# Altium schematic symbol library STUSB4500QTR.Schlib: 1 symbol
Pins are listed as number, name and electrical type; pins without a type are passive.

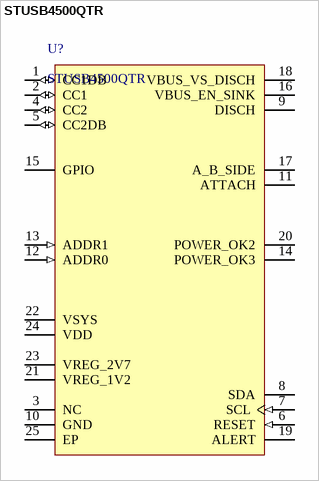
[diagram p0: symbol STUSB4500QTR]

## STUSB4500QTR
designator U?
USB Controller USB 2.0 I²C Interface 24-QFN (4x4)
pins: 1 CC1DB (io), 2 CC1 (io), 3 NC, 4 CC2 (io), 5 CC2DB (io), 6 RESET (in), 7 SCL (in), 8 SDA (oc), 9 DISCH (oc), 10 GND (power), 11 ATTACH (oc), 12 ADDR0 (in), 13 ADDR1 (in), 14 POWER_OK3 (oc), 15 GPIO (oc), 16 VBUS_EN_SINK (oc), 17 A_B_SIDE (oc), 18 VBUS_VS_DISCH (oc), 19 ALERT (oc), 20 POWER_OK2 (oc), 21 VREG_1V2 (power), 22 VSYS (power), 23 VREG_2V7 (power), 24 VDD (power), 25 EP (power)